# Altium footprint library 691325310008.PcbLib: 1 footprints
Each footprint in its own frame and in the unit in brackets; x right, y up, seen from the top. Pads: shape width x height; smd on the part's side, far side on the other; paste and mask are expansions set on the pad; w line width, h text height; cw(c..) or ccw(c..) is an arc to the next point about the centre after c.
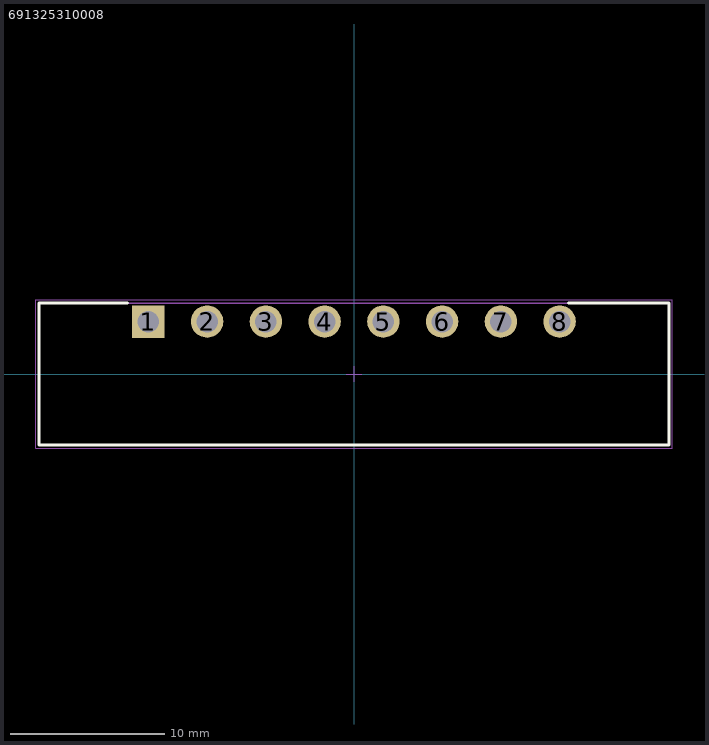
[diagram p0: the footprint, top view; thin cyan lines are the x and y axes]

## 691325310008 [mm] "Horizontal PCB Header with Flanges, pitch 3.81mm, 08p"
height 7
pads (8):
  rect 2.1x2.1 hole 1.4: 1(-13.335,3.4)
  round 2.1 hole 1.4: 2(-9.525,3.4) 3(-5.715,3.4) 4(-1.905,3.4) 5(1.905,3.4) 6(5.715,3.4) 7(9.525,3.4) 8(13.335,3.4)
Top Overlay:
  lines w0.2: -14.685,4.6 -20.435,4.6 -20.435,-4.6 20.435,-4.6 20.435,4.6 13.925,4.6
Top Assembly:
  lines w0.05: -0.5,0 0.5,0 ; 0,-0.5 0,0.5
  lines w0.1: -20.435,-4.6 20.435,-4.6 20.435,4.6 -20.435,4.6 -20.435,-4.6
Top Courtyard:
  lines w0.05: -20.635,-4.8 20.635,-4.8 20.635,4.8 -20.635,4.8 -20.635,-4.8
3D body "691325310008.stp": height 7.3, standoff -3.4, extent -20.435,-4.6 20.435,4.6